# Altium schematic symbol library IC_TI_PHY_DP83848MPHPREP.SchLib: 1 symbol
Pins are listed as number, name and electrical type; pins without a type are passive.

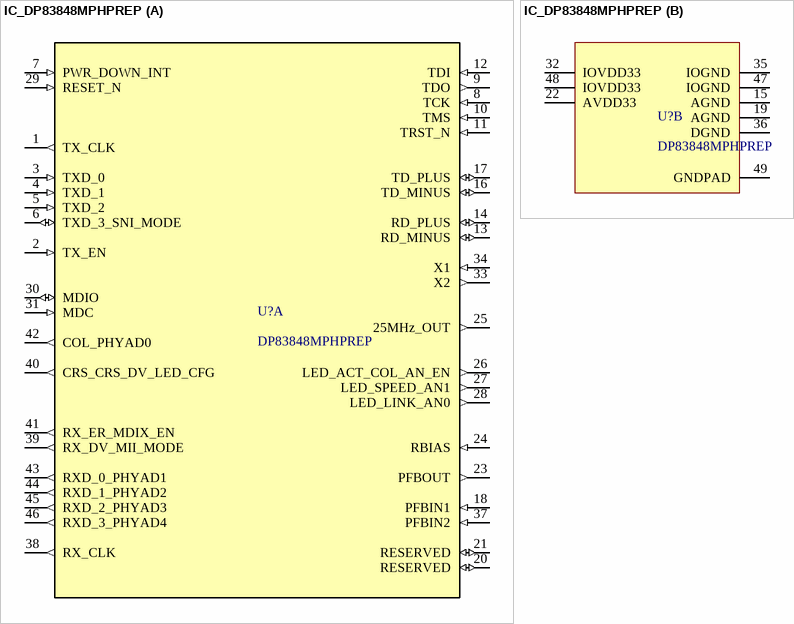
[diagram p0: symbol IC_DP83848MPHPREP]

## IC_DP83848MPHPREP
designator U?, comment DP83848MPHPREP
Enhanced Product PHYTER extreme temperature single port 10/100 Mb/s Ethernet physical layer 48-HTQFP -55 to 125; Manufacturer_Name: Texas Instruments; Alternate_Manufacturer: None; CurrentTime: Not shown in title block; DocumentNumber: 1; SymbolCreator: a0411947; CompType: IC; U/M: EA; Designator: U?; Copyright: Copyright (C) 2025 Ultra Librarian. All rights reserved.; Manufacturer_Part_Number: DP83848MPHPREP; CurrentDate: Not shown in title block; Time: Not shown in title block; Date: Not shown in title block; DocumentFullPathAndName: Not shown in title block; DocumentName: Not shown in title block; ModifiedDate: Not shown in title block; ApprovedBy: Not shown in title block; CheckedBy: Not shown in title block; Author: Not shown in title block; CompanyName: Not shown in title block; Engineer: Not shown in title block; Organization: Not shown in title block; Address1: Not shown in title block; Address2: Not shown in title block; Address3: Not shown in title block; Address4: Not shown in title block; Revision: Use project parameter SCH_Rev; SheetNumber: 1; SheetTotal: 1; ImagePath: Not shown in title block; Rule: *; ProjectName: *; SymbolVersion: 2014-04-03; PartNumber: DP83848MPHPREP; PackageReference: PHP0048F; MountType: SMT; ComponentLink1Description: Datasheet Link; ComponentLink1URL: https://sps06.itg.ti.com/sites/KMS/crossdivteams/altium/docs/ComponentDatasheets/dp83848-ep.pdf; RoHS: Y; Publisher: Texas Instruments; LatestRevisionDate: 2014-04-03; Manufacturer: Texas Instruments; Refdes: Refdes; Type: Type
footprint TI_PHY_DP83848-EP (IC TRANSCEIVER 1/1 48HTQFP)
part A pins: 1 TX_CLK (out), 2 TX_EN (in), 3 TXD_0 (in), 4 TXD_1 (in), 5 TXD_2 (in), 6 TXD_3_SNI_MODE (io), 7 PWR_DOWN_INT (in), 8 TCK (in), 9 TDO (out), 10 TMS (in), 11 TRST_N (in), 12 TDI (in), 13 RD_MINUS (io), 14 RD_PLUS (io), 16 TD_MINUS (io), 17 TD_PLUS (io), 18 PFBIN1 (in), 20 RESERVED (io), 21 RESERVED (io), 23 PFBOUT (out), 24 RBIAS (in), 25 25MHz_OUT (out), 26 LED_ACT_COL_AN_EN (out), 27 LED_SPEED_AN1 (out), 28 LED_LINK_AN0 (out), 29 RESET_N (in), 30 MDIO (io), 31 MDC (in), 33 X2 (out), 34 X1 (in), 37 PFBIN2 (in), 38 RX_CLK (out), 39 RX_DV_MII_MODE (out), 40 CRS_CRS_DV_LED_CFG (out), 41 RX_ER_MDIX_EN (out), 42 COL_PHYAD0 (out), 43 RXD_0_PHYAD1 (out), 44 RXD_1_PHYAD2 (out), 45 RXD_2_PHYAD3 (out), 46 RXD_3_PHYAD4 (out)
part B pins: 15 AGND (power), 19 AGND (power), 22 AVDD33 (power), 32 IOVDD33 (power), 35 IOGND (power), 36 DGND (power), 47 IOGND (power), 48 IOVDD33 (power), 49 GNDPAD (power)